# Altium footprint library SamacSys.PcbLib: 12 footprints
Each footprint in its own frame and in the unit in brackets; x right, y up, seen from the top. Pads: shape width x height; smd on the part's side, far side on the other; paste and mask are expansions set on the pad; w line width, h text height; cw(c..) or ccw(c..) is an arc to the next point about the centre after c.
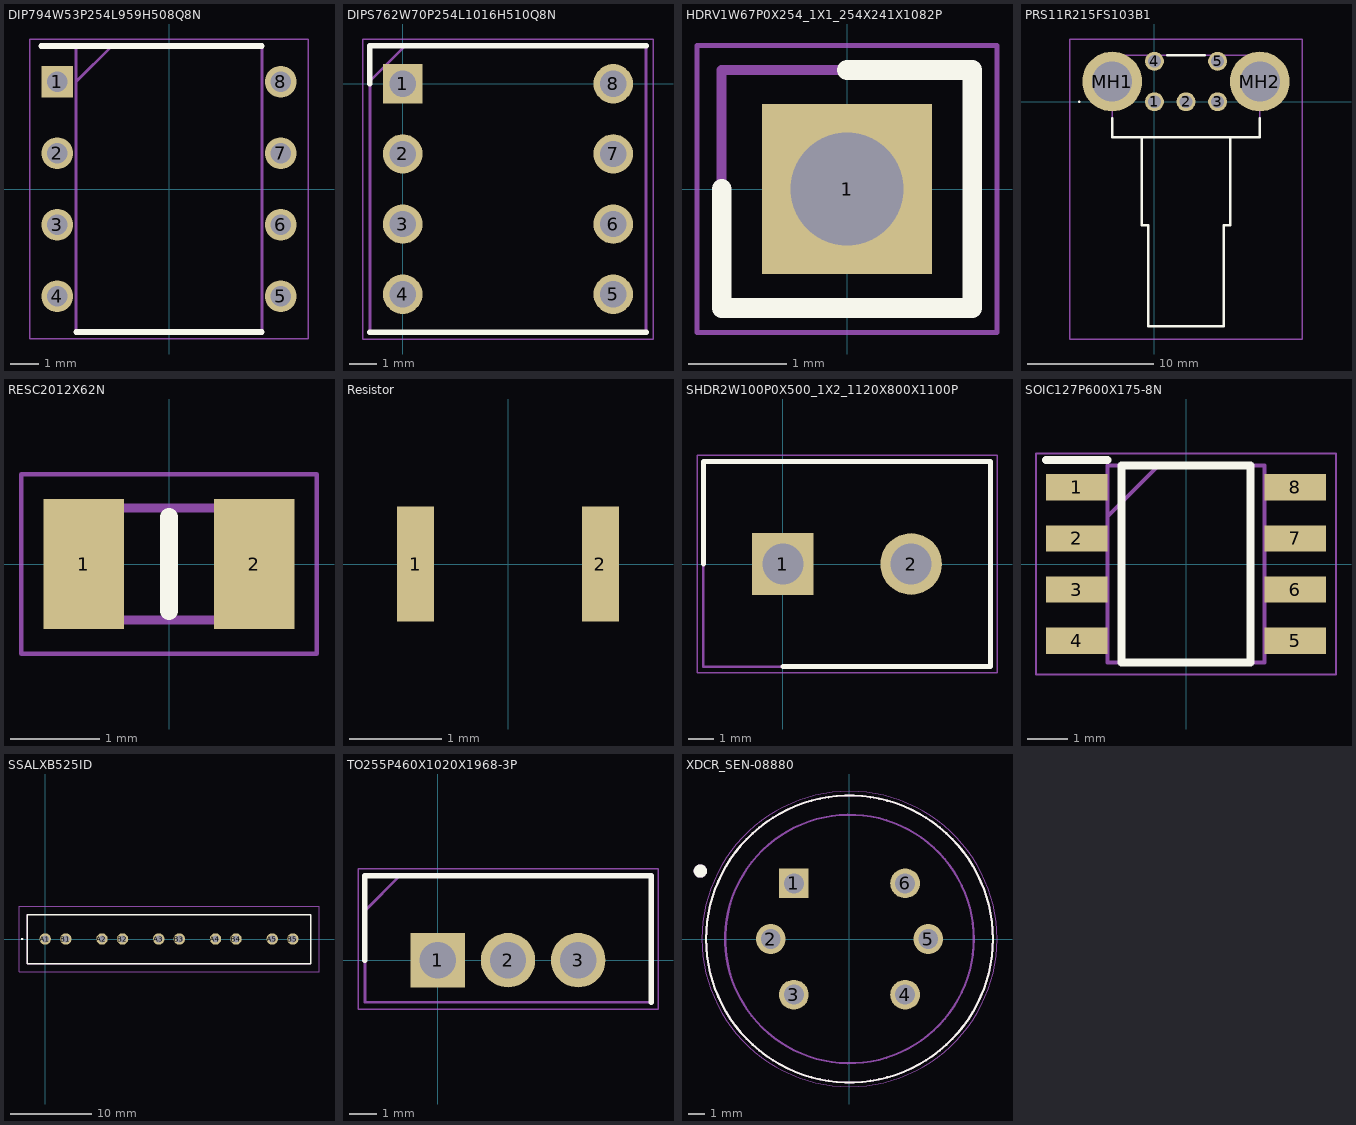
[diagram p0: the footprints below, top view; thin cyan lines are the x and y axes]

## 0805 [mm]

## DIP794W53P254L959H508Q8N [mm]
pads (8):
  rect 1.13x1.13 hole 0.73: 1(-3.97,3.81)
  round 1.13 hole 0.73: 2(-3.97,1.27) 3(-3.97,-1.27) 4(-3.97,-3.81) 5(3.97,-3.81) 6(3.97,-1.27) 7(3.97,1.27) 8(3.97,3.81)
Top Overlay:
  lines w0.2: -4.535,5.08 3.3,5.08 ; -3.3,-5.08 3.3,-5.08
Mechanical 13:
  lines w0.1: -3.3,3.81 -2.03,5.08 ; -3.3,-5.08 3.3,-5.08 3.3,5.08 -3.3,5.08 -3.3,-5.08
Mechanical 15:
  lines w0.05: -4.945,-5.33 4.945,-5.33 4.945,5.33 -4.945,5.33 -4.945,-5.33
3D body "TLV2372IPE4.stp": height 4.21, standoff -3.37, extent -4.102,-4.635 4.102,4.635

## DIPS762W70P254L1016H510Q8N [mm]
pads (8):
  rect 1.425x1.425 hole 0.95: 1(0,0)
  round 1.425 hole 0.95: 2(0,-2.54) 3(0,-5.08) 4(0,-7.62) 5(7.62,-7.62) 6(7.62,-5.08) 7(7.62,-2.54) 8(7.62,0)
Top Overlay:
  lines w0.2: -1.19,-8.99 8.81,-8.99 ; -1.19,0 -1.19,1.37 8.81,1.37
Mechanical 13:
  lines w0.1: -1.19,0.1 0.08,1.37 ; -1.19,-8.99 8.81,-8.99 8.81,1.37 -1.19,1.37 -1.19,-8.99
Mechanical 15:
  lines w0.05: -1.44,-9.24 9.06,-9.24 9.06,1.62 -1.44,1.62 -1.44,-9.24
3D body "1-2199298-2.stp": height 4.84, standoff -3.26, extent -1.19,-8.89 8.81,1.27

## HDRV1W67P0X254_1X1_254X241X1082P [mm]
pads (1):
  rect 1.725x1.725 hole 1.15: 1(0,0)
Top Overlay:
  lines w0.2: -1.27,0 -1.27,-1.205 1.27,-1.205 1.27,1.205 0,1.205
Mechanical 13:
  lines w0.1: -1.27,-1.205 1.27,-1.205 1.27,1.205 -1.27,1.205 -1.27,-1.205
Mechanical 15:
  lines w0.05: -1.52,-1.455 1.52,-1.455 1.52,1.455 -1.52,1.455 -1.52,-1.455
3D body "68024-100HLF.stp": height 10.61, standoff -3.81, extent -1.27,-1.206 1.27,1.206

## PRS11R215FS103B1 [mm]
pads (7):
  round 1.5 hole 1: 1(0,0) 2(2.5,0) 3(5,0) 4(0,3.2) 5(5,3.2)
  round 4.74 hole 3.16: MH1(-3.35,1.6) MH2(8.35,1.6)
Top Overlay:
  lines w0.1: -6,0 cw(c-5.95,0) -5.9,0 cw(c-5.95,0) -6,0
  lines w0.2: -3.35,-1.3 -3.35,-2.8 8.35,-2.8 8.35,-1.3 ; -1,-2.8 -1,-9.8 -0.5,-9.8 -0.5,-17.8 5.5,-17.8 5.5,-9.8 6,-9.8 6,-2.8 ; 1,3.7 4,3.7
Mechanical 13:
  lines w0.1: -1,-2.8 -1,-9.8 -0.5,-9.8 -0.5,-17.8 5.5,-17.8 5.5,-9.8 6,-9.8 6,-2.8 ; -3.35,-2.8 -3.35,3.7 8.35,3.7 8.35,-2.8 -3.35,-2.8
Mechanical 15:
  lines w0.1: -6.72,-18.8 -6.72,4.97 11.72,4.97 11.72,-18.8 -6.72,-18.8
3D body "PRS11R-215F-S103B1.stp": height 13.11, standoff -3.71, extent -4.545,-21.78 9.554,3.62

## RESC2012X62N [mm]
pads (2):
  rect 0.9x1.45 smd: 1(-0.95,0) 2(0.95,0)
Top Overlay:
  lines w0.2: 0,-0.525 0,0.525
Mechanical 13:
  lines w0.1: -1,-0.625 -1,0.625 1,0.625 1,-0.625 -1,-0.625
Mechanical 15:
  lines w0.05: -1.65,-1 -1.65,1 1.65,1 1.65,-1 -1.65,-1
3D body "MCU0805MD3304BP500.stp": height 0.62, standoff 0, extent -1,-0.625 1,0.625

## Resistor [mm]
pads (2):
  rect 0.4x1.25 smd: 1(-1,0) 2(1,0)

## SHDR2W100P0X500_1X2_1120X800X1100P [mm]
pads (2):
  rect 2.4x2.4 hole 1.6: 1(0,0)
  round 2.4 hole 1.6: 2(5,0)
Top Overlay:
  lines w0.2: -3.1,0 -3.1,4 8.1,4 8.1,-4 0,-4
Mechanical 13:
  lines w0.1: -3.1,-4 -3.1,4 8.1,4 8.1,-4 -3.1,-4
Mechanical 15:
  lines w0.05: -3.35,-4.25 -3.35,4.25 8.35,4.25 8.35,-4.25 -3.35,-4.25
3D body "691111710002.stp": height 11, standoff -4, extent -3.1,-4 8.1,4

## SOIC127P600X175-8N [mm]
pads (8):
  rect 1.525x0.65 smd: 1(-2.712,1.905) 2(-2.712,0.635) 3(-2.712,-0.635) 4(-2.712,-1.905) 5(2.712,-1.905) 6(2.712,-0.635) 7(2.712,0.635) 8(2.712,1.905)
Top Overlay:
  lines w0.2: -3.475,2.58 -1.95,2.58 ; -1.6,-2.45 -1.6,2.45 1.6,2.45 1.6,-2.45 -1.6,-2.45
Mechanical 13:
  lines w0.1: -1.95,1.18 -0.68,2.45 ; -1.95,-2.45 -1.95,2.45 1.95,2.45 1.95,-2.45 -1.95,-2.45
Mechanical 15:
  lines w0.05: -3.725,-2.75 -3.725,2.75 3.725,2.75 3.725,-2.75 -3.725,-2.75
3D body "NE555DR.stp": height 1.75, standoff 0, extent -3,-2.45 3,2.45

## SSALXB525ID [mm]
pads (10):
  round 1.416 hole 0.91: A1(0,0) A2(7,0) A3(14,0) A4(21,0) A5(28,0) B1(2.54,0) B2(9.54,0) B3(16.54,0) B4(23.54,0) B5(30.54,0)
Top Overlay:
  lines w0.2: -2.9,0 cw(c-2.85,0) -2.8,0 ; -2.9,0 ccw(c-2.85,0) -2.8,0 ; -2.9,0 -2.8,0 ; -2.23,-3.05 -2.23,3 32.77,3 32.77,-3.05 -2.23,-3.05
Mechanical 13:
  lines w0.1: -2.23,-3.05 -2.23,3.05 32.77,3.05 32.77,-3.05 -2.23,-3.05
Mechanical 15:
  lines w0.1: -3.23,-4.05 -3.23,4.05 33.77,4.05 33.77,-4.05 -3.23,-4.05
3D body: height 0.25, standoff 0, extent -3.112,-3.937 33.593,3.937

## TO255P460X1020X1968-3P [mm]
pads (3):
  rect 1.98x1.98 hole 1.32: 1(0,0)
  round 1.98 hole 1.32: 2(2.55,0) 3(5.1,0)
Top Overlay:
  lines w0.2: -2.65,0 -2.65,3.07 7.75,3.07 7.75,-1.53
Mechanical 13:
  lines w0.1: -2.65,1.795 -1.375,3.07 ; -2.65,-1.53 -2.65,3.07 7.75,3.07 7.75,-1.53 -2.65,-1.53
Mechanical 15:
  lines w0.05: -2.9,-1.78 -2.9,3.32 8,3.32 8,-1.78 -2.9,-1.78
3D body "L7805ACV-DG.stp": height 19.68, standoff -18.2, extent -2.55,-1.53 7.65,3.07

## XDCR_SEN-08880 [mm]
pads (6):
  rect 1.8x1.8 hole 1.2: 1(-3.359,3.359)
  round 1.8 hole 1.2: 2(-4.75,0) 3(-3.359,-3.359) 4(3.359,-3.359) 5(4.75,0) 6(3.359,3.359)
Top Overlay:
  circle w0.4: c-9,4.1 r0.2
  circle w0.127: c0,0 r8.65
Mechanical 13:
  circle w0.4: c-9,4.1 r0.2
  circle w0.127: c0,0 r7.5
  circle w0.127: c0,0 r8.65
Mechanical 15:
  circle w0.05: c0,0 r8.9